# Altium schematic symbol library 1571983-4TE.SchLib: 1 symbol
Pins are listed as number, name and electrical type; pins without a type are passive.

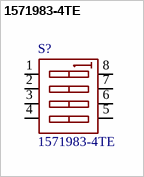
[diagram p0: symbol 1571983-4TE]

## 1571983-4TE
designator S?
DIP Switch, 4 Position, SPST
footprint SO-8 Wide Swhitch (SOIC, 8-Leads, Body 5.24x5.29mm, Pitch 1.27mm, IPC Medium Density)
pins: 1 A1, 2 A2, 3 A3, 4 A4, 5 B4, 6 B3, 7 B2, 8 B1